# EAGLE library part 2X16_2MM_SMD (library Strutz Electronic Industries)
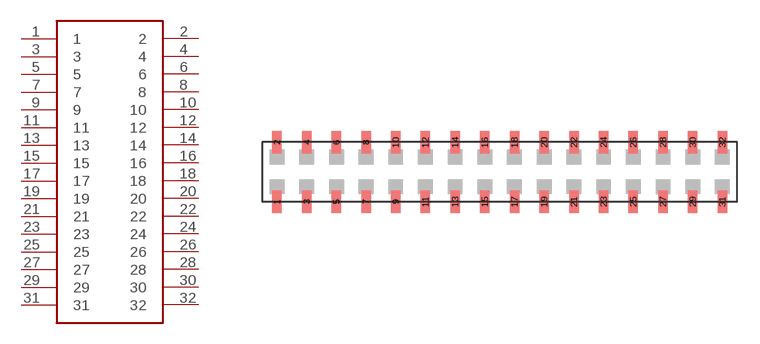
[diagram p45: symbol with the pads of 2X16_2MM_SMD; footprint 2X16_2MM_SMD]

Designator prefix -

## 2X16_2MM_SMD  [2X16_2MM_SMD]
1  1
2  2
3  3
4  4
5  5
6  6
7  7
8  8
9  9
10  10
11  11
12  12
13  13
14  14
15  15
16  16
17  17
18  18
19  19
20  20
21  21
22  22
23  23
24  24
25  25
26  26
27  27
28  28
29  29
30  30
31  31
32  32

## Footprint 2X16_2MM_SMD (pad centres in mm)
smd 0.635 x 1.5: 1 -15,-2; 2 -15,2; 3 -13,-2; 4 -13,2; 5 -11,-2; 6 -11,2; 7 -9,-2; 8 -9,2; 9 -7,-2; 10 -7,2; 11 -5,-2; 12 -5,2; 13 -3,-2; 14 -3,2; 15 -1,-2; 16 -1,2; 17 1,-2; 18 1,2; 19 3,-2; 20 3,2; 21 5,-2; 22 5,2; 23 7,-2; 24 7,2; 25 9,-2; 26 9,2; 27 11,-2; 28 11,2; 29 13,-2; 30 13,2; 31 15,-2; 32 15,2